# EAGLE library part IRIDIUM_9603 (library XLibrary)
Iridium 9603 https://fccid.io/Q639603N/User-Manual/Developers-guide-2370311.pdf
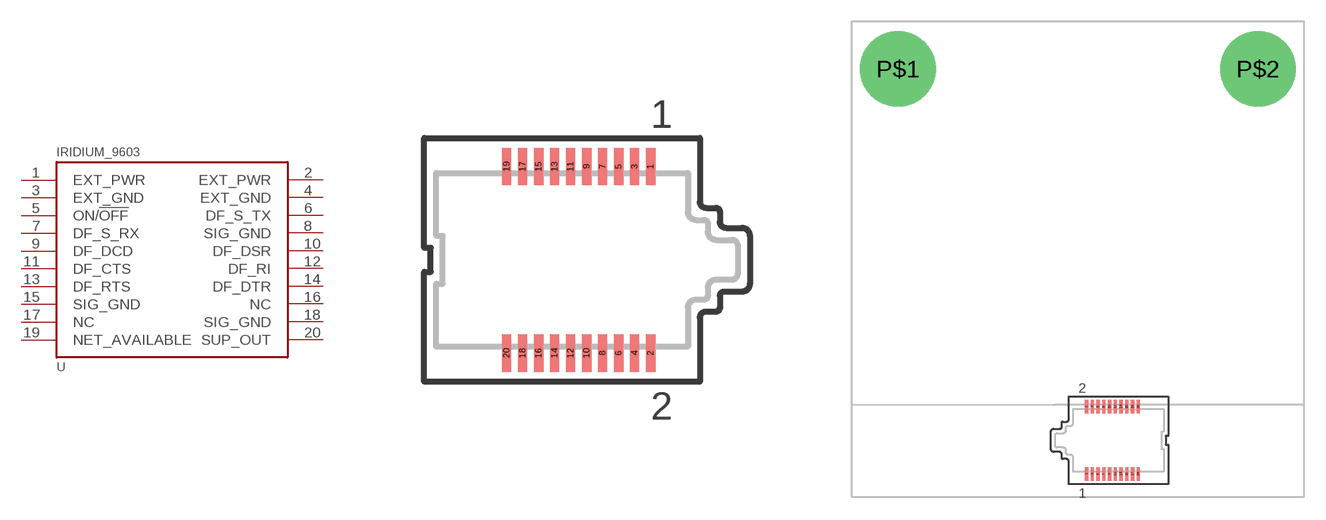
[diagram p8: symbol with the pads of SS4-10-3.00-X-D; footprints SS4-10-3.00-X-D, IRIDIUM_9603]

Designator prefix -

## IRIDIUM_9603  [SS4-10-3.00-X-D]
1  EXT_PWR  pwr
2  EXT_PWR  pwr
3  EXT_GND  pwr
4  EXT_GND  pwr
5  ON/!OFF  in
6  DF_S_TX  in
7  DF_S_RX  out
8  SIG_GND  pwr
9  DF_DCD  out
10  DF_DSR  out
11  DF_CTS  out
12  DF_RI  out
13  DF_RTS  in
14  DF_DTR  in
15  SIG_GND  pwr
16  NC  nc
17  NC  nc
18  SIG_GND  pwr
19  NET_AVAILABLE  out
20  SUP_OUT  out

## IRIDIUM_9603N  [IRIDIUM_9603]
1  EXT_PWR  pwr
2  EXT_PWR  pwr
3  EXT_GND  pwr
4  EXT_GND  pwr
5  ON/!OFF  in
6  DF_S_TX  in
7  DF_S_RX  out
8  SIG_GND  pwr
9  DF_DCD  out
10  DF_DSR  out
11  DF_CTS  out
12  DF_RI  out
13  DF_RTS  in
14  DF_DTR  in
15  SIG_GND  pwr
16  NC  nc
17  NC  nc
18  SIG_GND  pwr
19  NET_AVAILABLE  out
20  SUP_OUT  out
P$1  SIG_GND  pwr
P$2  SIG_GND  pwr

## Footprint SS4-10-3.00-X-D (pad centres in mm)
0.4mm[.016] SOCKET STRIP ASSEMBLY.
smd 0.23 x 0.93: 1 1.8,2.335; 2 1.8,-2.335; 3 1.4,2.335; 4 1.4,-2.335; 5 1,2.335; 6 1,-2.335; 7 0.6,2.335; 8 0.6,-2.335; 9 0.2,2.335; 10 0.2,-2.335; 11 -0.2,2.335; 12 -0.2,-2.335; 13 -0.6,2.335; 14 -0.6,-2.335; 15 -1,2.335; 16 -1,-2.335; 17 -1.4,2.335; 18 -1.4,-2.335; 19 -1.8,2.335; 20 -1.8,-2.335

## Footprint IRIDIUM_9603 (pad centres in mm)
0.4mm[.016] SOCKET STRIP ASSEMBLY.
smd 0.23 x 0.93: 1 -2,-2.535; 2 -2,2.135; 3 -1.6,-2.535; 4 -1.6,2.135; 5 -1.2,-2.535; 6 -1.2,2.135; 7 -0.8,-2.535; 8 -0.8,2.135; 9 -0.4,-2.535; 10 -0.4,2.135; 11 0,-2.535; 12 0,2.135; 13 0.4,-2.535; 14 0.4,2.135; 15 0.8,-2.535; 16 0.8,2.135; 17 1.2,-2.535; 18 1.2,2.135; 19 1.6,-2.535; 20 1.6,2.135
drill 3.73 pad 5.25: P$1 -15.1,25.59; P$2 9.9,25.59